# Altium footprint library HCLP3120.PcbLib: 1 footprints
Each footprint in its own frame and in the unit in brackets; x right, y up, seen from the top. Pads: shape width x height; smd on the part's side, far side on the other; paste and mask are expansions set on the pad; w line width, h text height; cw(c..) or ccw(c..) is an arc to the next point about the centre after c.
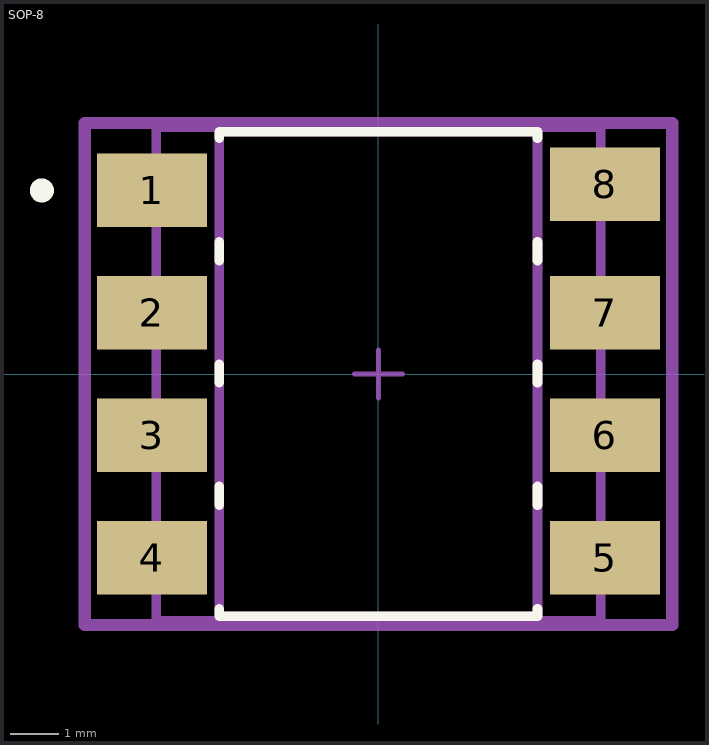
[diagram p0: the footprint, top view; thin cyan lines are the x and y axes]

## SOP-8 [mil]
pads (8):
  rect 90x60 smd: 1(-185,150) 2(-185,50) 3(-185,-50) 4(-185,-150) 5(185,-150) 6(185,-50) 7(185,50) 8(185,155)
Top Overlay:
  circle w9.84: c-275,150 r4.92
  lines w7.87: -129.92,-191.93 -129.92,-197.83 129.92,-197.83 129.92,-191.93 ; -129.92,-107.28 -129.92,-91.93 ; -129.92,-7.28 -129.92,8.07 ; -129.92,92.72 -129.92,108.07 ; -129.92,192.72 -129.92,197.83 129.92,197.83 129.92,192.72 ; 129.92,-107.28 129.92,-91.93 ; 129.92,-7.28 129.92,8.07 ; 129.92,92.72 129.92,108.07
Board Outline:
  lines w10: -240,-205 240,-205 240,205 -240,205 -240,-205
Top Assembly:
  lines w7.87: -181.5,-201.77 -181.5,201.77 181.5,201.77 181.5,-201.77 -181.5,-201.77
  text ".Designator" at 0,-0.02 h39.37
Top 3D Body:
  lines w7.87: -129.92,-197.83 -129.92,197.83 129.92,197.83 129.92,-197.83 -129.92,-197.83
Top Component Center:
  lines w3.94: -19.68,0 19.68,0 ; 0,-19.68 0,19.68
3D body "HCPL-3120.STEP": height 185.74, standoff 2.67, extent -195.94,-190.94 185.94,190.94